# Altium footprint library 66201021022.PcbLib: 1 footprints
Each footprint in its own frame and in the unit in brackets; x right, y up, seen from the top. Pads: shape width x height; smd on the part's side, far side on the other; paste and mask are expansions set on the pad; w line width, h text height; cw(c..) or ccw(c..) is an arc to the next point about the centre after c.
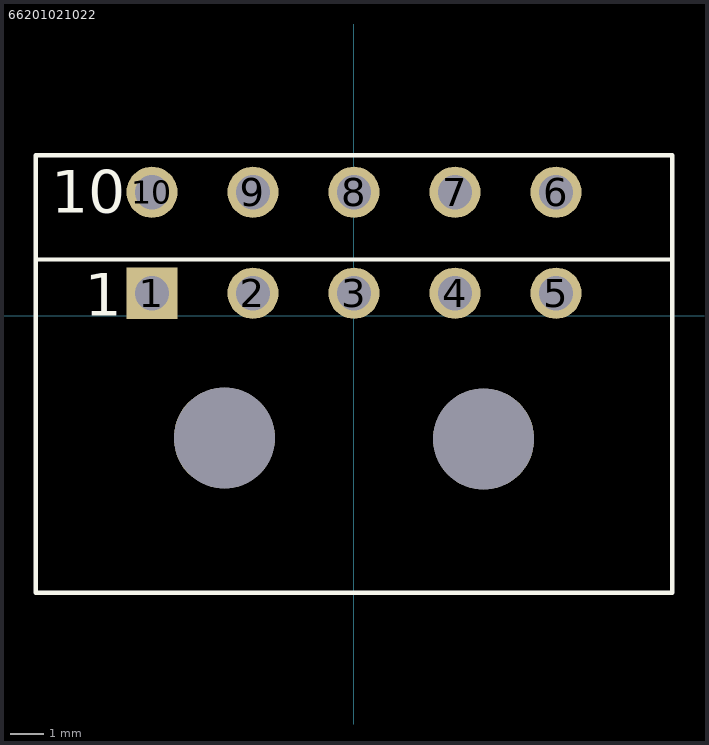
[diagram p0: the footprint, top view; thin cyan lines are the x and y axes]

## 66201021022 [mm] "Dual row Right angle header With plastic peg 10p"
height 8.76
pads (12):
  rect 1.52x1.52 hole 1.02: 1(-6,0.665)
  round 1.52 hole 1.02: 2(-3,0.665) 3(0,0.665) 4(3,0.665) 5(6,0.665) 6(6,3.665) 7(3,3.665) 8(0,3.665) 9(-3,3.665) 10(-6,3.665)
  round 3 hole 3 unplated: ""(-3.85,-3.635) ""(3.85,-3.665)
Top Overlay:
  lines w0.127: -9.45,-8.235 -9.45,4.765 9.45,4.765 9.45,-8.235 ; -9.45,-8.235 9.45,-8.235 ; -9.45,-8.235 -9.45,1.665 9.45,1.665 9.45,-8.235 ; -9.45,-8.235 9.45,-8.235
  text "10" at -8.986,3.054 h1.27
  text "1" at -8,0 h1.27
3D body "66201021022.stp": height 8.78, standoff -3.18, extent -9.35,-8.235 9.35,3.985